# Altium schematic symbol library IDT_Touchkey.Schlib: 1 symbol
Pins are listed as number, name and electrical type; pins without a type are passive.

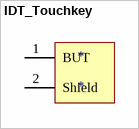
[diagram p0: symbol IDT_Touchkey]

## IDT_Touchkey
designator *
pins: 1 BUT, 2 Shield